# Altium footprint library FPGA-DemoShield-PcbLib.PcbLib: 10 footprints
Each footprint in its own frame and in the unit in brackets; x right, y up, seen from the top. Pads: shape width x height; smd on the part's side, far side on the other; paste and mask are expansions set on the pad; w line width, h text height; cw(c..) or ccw(c..) is an arc to the next point about the centre after c.
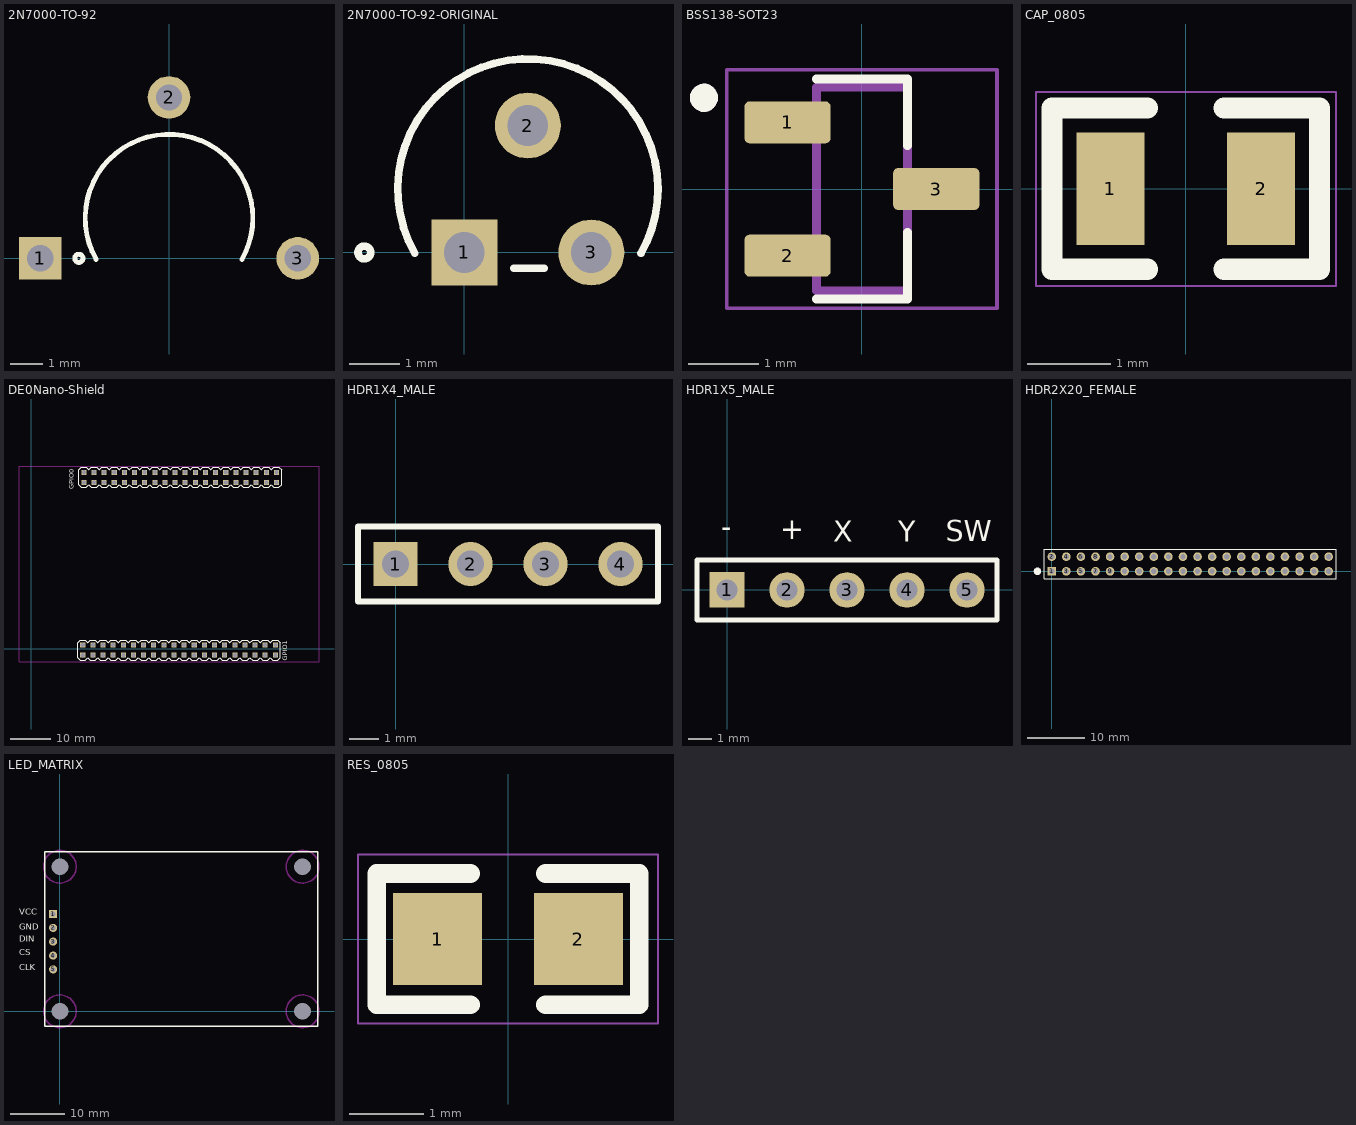
[diagram p0: the footprints below, top view; thin cyan lines are the x and y axes]

## 2N7000-TO-92 [mil]
pads (3):
  rect 52x52 hole 32 mask+0: 1(-157.48,0)
  round 52 hole 32 mask+0: 2(0,196.85) 3(157.48,0)
Top Overlay:
  circle w6: c-110.24,0 r5
  lines w6: -89.1,-1.46 cw(c0,49.21) 102.5,49.21 cw(c0,49.21) 89.09,-1.47
3D body "TO-92_STM.step": height 193.74, standoff -109.25, extent -97.48,-11.77 97.48,146.71

## 2N7000-TO-92-ORIGINAL [mil]
pads (3):
  rect 52x52 hole 32 mask+0: 1(0,0)
  round 52 hole 32 mask+0: 2(50,100) 3(100,0)
Top Overlay:
  circle w6: c-78.74,0 r5
  lines w6: -39.1,-0.67 cw(c50,50) 152.5,50 cw(c50,50) 139.09,-0.68 ; 39.1,-12.5 62.95,-12.5
3D body "TO-92_STM.step": height 193.74, standoff -109.25, extent -47.48,-10.98 147.48,147.5

## BSS138-SOT23 [mm]
pads (3):
  rrect25% 1.23x0.6 smd: 1(-1.06,0.95) 2(-1.06,-0.95) 3(1.06,0)
Top Overlay:
  circle w0.2: c-2.25,1.3 r0.1
  lines w0.127: -0.65,-1.57 0.65,-1.57 0.65,-0.62 ; -0.65,1.57 0.65,1.57 0.65,0.62
Mechanical 13:
  circle w0.2: c-2.25,1.3 r0.1
  lines w0.127: -0.65,-1.45 0.65,-1.45 0.65,1.45 -0.65,1.45 -0.65,-1.45
Mechanical 15:
  lines w0.05: -1.925,-1.7 -1.925,1.7 1.925,1.7 1.925,-1.7 -1.925,-1.7
3D body "BSS138.STEP": height 1.1, standoff 0, extent -1.25,-1.45 1.25,1.45

## CAP_0805 [mil]
height 55.12
pads (2):
  rect 32x53 smd: 1(-35.5,0) 2(35.5,0)
Top Overlay:
  lines w10: -18,-38 -63,-38 -63,38 -18,38 ; 18,-38 63,-38 63,38 18,38
Top Courtyard:
  lines w1: -70.5,-45.77 70.77,-45.77 70.77,45.45 -70.5,45.45 -70.5,-45.77
3D body "HW-0-3-MOD-11-220219 (Capacitor 0805 3D Body).stp": height 49.21, standoff 0, extent -40,-25 38.74,24.21

## DE0Nano-Shield [mil]
pads (80):
  rect 49.8x49.8 hole 40: 1(520,1640) 1(2409.05,34.92) 2(520,1740) 2(2409.05,-65.08) 3(620,1640) 3(2309.05,34.92) 4(620,1740) 4(2309.05,-65.08) 5(720,1640) 5(2209.03,34.92) 6(720,1740) 6(2209.03,-65.08) 7(820,1640) 7(2109.03,34.92) 8(820,1740) 8(2109.03,-65.08) 9(920,1640) 9(2009.03,34.92) 10(920,1740) 10(2009.03,-65.08) 11(1020,1640) 11(1909.05,34.92) 12(1020,1740) 12(1909.05,-65.08) 13(1120,1640) 13(1809.05,34.92) 14(1120,1740) 14(1809.05,-65.08) 15(1220,1640) 15(1709.05,34.92) 16(1220,1740) 16(1709.05,-65.08) 17(1320,1640) 17(1609.05,34.92) 18(1320,1740) 18(1609.05,-65.08) 19(1420,1640) 19(1509.05,34.92) 20(1420,1740) 20(1509.05,-65.08) 21(1409.05,34.92) 21(1520,1640) 22(1409.05,-65.08) 22(1520,1740) 23(1309.05,34.92) 23(1620,1640) 24(1309.05,-65.08) 24(1620,1740) 25(1209.05,34.92) 25(1720,1640) 26(1209.05,-65.08) 26(1720,1740) 27(1109.05,34.92) 27(1820,1640) 28(1109.05,-65.08) 28(1820,1740) 29(1009.05,34.92) 29(1920,1640) 30(1009.05,-65.08) 30(1920,1740) 31(909.03,34.92) 31(2020,1640) 32(909.03,-65.08) 32(2020,1740) 33(809.03,34.92) 33(2120,1640) 34(809.03,-65.08) 34(2120,1740) 35(709.03,34.92) 35(2220,1640) 36(709.03,-65.08) 36(2220,1740) 37(609.03,34.92) 37(2320,1640) 38(609.03,-65.08) 38(2320,1740) 39(509.03,34.92) 39(2420,1640) 40(509.03,-65.08) 40(2420,1740)
Top Overlay:
  drawing of 244 lines, arcs and shapes, not listed
  text "GPIO0" at 442.08,1574.8 h78.74
  text "GPIO1" at 2548.38,-118.11 h78.74
Keep-Out Layer:
  lines w6: -120,-130 -120,1800 2840,1800 2840,-130 -120,-130

## HDR1X4_MALE [mm] "Connector; Header; 4 Position"
pads (4):
  rect 1.5x1.5 hole 0.9: 1(0,0)
  round 1.5 hole 0.9: 2(2.54,0) 3(5.08,0) 4(7.62,0)
Top Overlay:
  lines w0.2: -1.27,-1.27 -1.27,1.27 8.89,1.27 8.89,-1.27 -1.27,-1.27
3D body "HEADER_4_MALE.stp": height 5.21, standoff -2.41, extent -1.393,-1.25 8.894,1.29

## HDR1X5_MALE [mm] "Connector; Header; 5 Position"
pads (5):
  rect 1.5x1.5 hole 0.9: 1(0,0)
  round 1.5 hole 0.9: 2(2.54,0) 3(5.08,0) 4(7.62,0) 5(10.16,0)
Top Overlay:
  lines w0.2: -1.27,-1.27 -1.27,1.27 11.43,1.27 11.43,-1.27 -1.27,-1.27
  text "-" at -0.25,1.962 h1.5
  text "+" at 2.25,1.845 h1.5
  text "X" at 4.5,1.75 h1.5
  text "Y" at 7.251,1.75 h1.5
  text "SW" at 9.25,1.766 h1.5
3D body "HEADER_5_MALE.stp": height 5.21, standoff -2.41, extent -1.413,-1.25 11.414,1.29

## HDR2X20_FEMALE [mm] "Connector; Header; 20x2 Position"
pads (40):
  rect 1.5x1.5 hole 0.9: 1(0,0)
  round 1.5 hole 0.9: 2(0,2.54) 3(2.54,0) 4(2.54,2.54) 5(5.08,0) 6(5.08,2.54) 7(7.62,0) 8(7.62,2.54) 9(10.16,0) 10(10.16,2.54) 11(12.7,0) 12(12.7,2.54) 13(15.24,0) 14(15.24,2.54) 15(17.78,0) 16(17.78,2.54) 17(20.32,0) 18(20.32,2.54) 19(22.86,0) 20(22.86,2.54) 21(25.4,0) 22(25.4,2.54) 23(27.94,0) 24(27.94,2.54) 25(30.48,0) 26(30.48,2.54) 27(33.02,0) 28(33.02,2.54) 29(35.56,0) 30(35.56,2.54) 31(38.1,0) 32(38.1,2.54) 33(40.64,0) 34(40.64,2.54) 35(43.18,0) 36(43.18,2.54) 37(45.72,0) 38(45.72,2.54) 39(48.26,0) 40(48.26,2.54)
Top Overlay:
  circle w0.8: c-2.5,0 r0.25
  lines w0.2: -1.27,-1.27 -1.27,3.81 49.53,3.81 49.53,-1.27 -1.27,-1.27
3D body "HEADER_2X20.STEP": height 3.2, standoff -8.51, extent -1.558,-1.5 49.75,3.58

## LED_MATRIX [mm] "Connector; Header; 5 Position"
pads (9):
  rect 1.5x1.5 hole 0.9: 1(-1.25,17.83)
  round 1.5 hole 0.9: 2(-1.25,15.29) 3(-1.25,12.77) 4(-1.25,10.21) 5(-1.25,7.67)
  round 0 hole 3.1 unplated: 10(0,0) 10(0,26.5) 10(44.5,0) 10(44.5,26.5)
Top Overlay:
  lines w0.254: -2.75,-2.75 47.25,-2.75 47.25,29.25 -2.75,29.25 -2.75,-2.75
  text "VCC" at -7.499,17.271 h2
  text "GND" at -7.5,14.521 h2
  text "DIN" at -7.5,12.25 h2
  text "CS" at -7.5,9.771 h2
  text "CLK" at -7.5,7.021 h2
Keep-Out Layer:
  circle w0.254: c44.5,0 r3
  circle w0.254: c44.5,26.5 r3
  circle w0.254: c0,26.5 r3
  circle w0.254: c0,0 r3
3D body "MAX7219 8x8 LED Dot Matrix Display Module.STEP": height 18.68, standoff 2.68, extent -5.5,-2.756 49.64,29.756
3D body "HEADER_5_FEMALE.STEP": height 8.51, standoff -3.2, extent -2.52,6.166 0.02,19.374

## RES_0805 [mil]
pads (2):
  rect 47.59x49.24 smd: 1(-37.57,0) 2(37.57,0)
Top Overlay:
  lines w10: -20,-35 -70,-35 -70,35 -20,35 ; 20,-35 70,-35 70,35 20,35
Top Courtyard:
  lines w1: -80,-45 -80,45 80,45 80,-45 -80,-45
3D body "RC0805N_PAN.step": height 27.99, standoff 0, extent -39.37,-23.62 39.37,23.62